# Altium schematic symbol library Schlib1.SchLib: 2 symbols
Pins are listed as number, name and electrical type; pins without a type are passive.

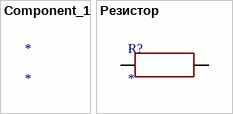
[diagram p0: symbols Component_1 to Резистор]

## Component_1
designator *

## Резистор
designator R?
footprint Резистор0805
pins: 1, 2